# EAGLE library part LAYOUT_6-PIN-CON-2.54 (library Mother-Board-rev5)
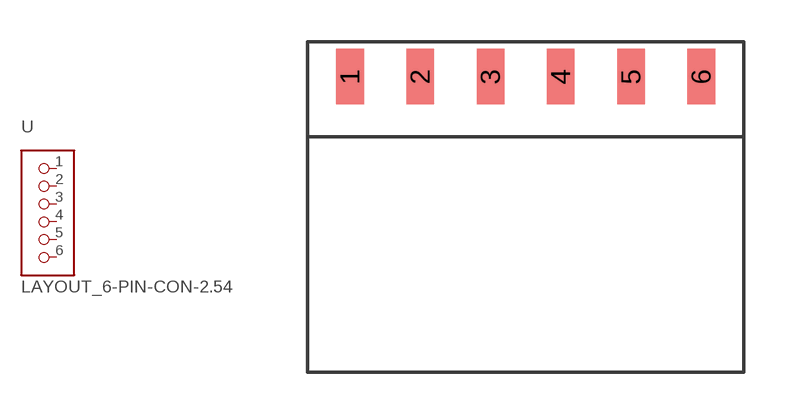
[diagram p0: symbol with the pads of LAYOUT_6-PIN-CON-2,45MM; footprint LAYOUT_6-PIN-CON-2,45MM]

Designator prefix -

## LAYOUT_6-PIN-CON-2.54  [LAYOUT_6-PIN-CON-2,45MM]
1  P$1
2  P$2
3  P$3
4  P$4
5  P$5
6  P$6

## Footprint LAYOUT_6-PIN-CON-2,45MM (pad centres in mm)
smd 1 x 2: 1 -6.35,-1.27; 2 -3.81,-1.27; 3 -1.27,-1.27; 4 1.27,-1.27; 5 3.81,-1.27; 6 6.35,-1.27